# Altium schematic symbol library ES9038Q2M.SchLib: 1 symbol
Pins are listed as number, name and electrical type; pins without a type are passive.

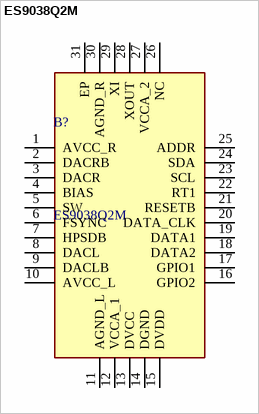
[diagram p0: symbol ES9038Q2M]

## ES9038Q2M
designator B?
Digital to Analog Converters - DAC Sabre 32 Reference Stereo low power audiophile DAC w/DOP; Manufacturer_Name: ESS Technology; Geometry.Height: 0.8mm; Mouser Part Number: 460-ES9038Q2M; Mouser Price/Stock: https://www.mouser.co.uk/ProductDetail/ESS-Technology/ES9038Q2M?qs=sPbYRqrBIVmdeUedURuuOw%3D%3D; Manufacturer_Part_Number: ES9038Q2M; Datasheet Link: *
footprint QFN40P300X500X80-31N-D
pins: 1 AVCC_R, 2 DACRB, 3 DACR, 4 BIAS, 5 SW, 6 FSYNC, 7 HPSDB, 8 DACL, 9 DACLB, 10 AVCC_L, 11 AGND_L, 12 VCCA_1, 13 DVCC, 14 DGND, 15 DVDD, 16 GPIO2, 17 GPIO1, 18 DATA2, 19 DATA1, 20 DATA_CLK, 21 RESETB, 22 RT1, 23 SCL, 24 SDA, 25 ADDR, 26 NC, 27 VCCA_2, 28 XOUT, 29 XI, 30 AGND_R, 31 EP